# EAGLE library part ADIS16209 (library DAC)
High Accuracy, Dual-Axis Digital Inclinometer and Accelerometer Source: http://www.analog.com/static/imported-files/data_sheets/ADIS16209.pdf
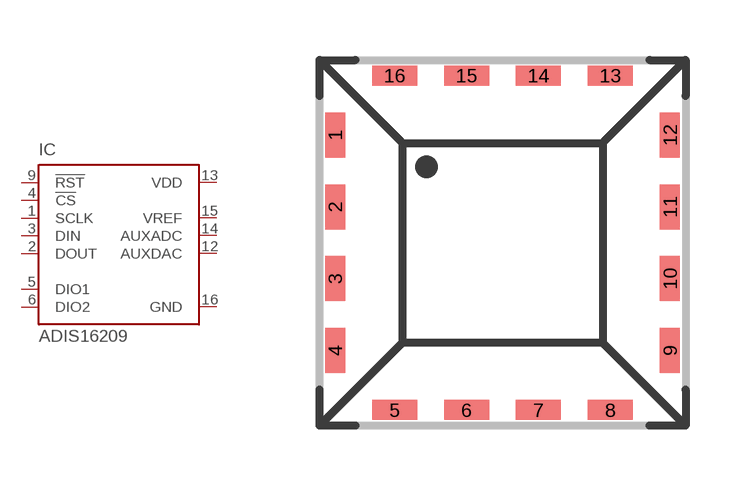
[diagram p59: symbol with the pads of LGA16; footprint LGA16]

Designator prefix IC

## ADIS16209 (MPN: ADIS16209CCCZ; OC_FARNELL: 1607244; OC_NEWARK: 71M1609)  [LGA16]
1  SCLK  in
2  DOUT  out
3  DIN  in
4  !CS  in
5  DIO1
6  DIO2
9  !RST  in
12  AUXDAC  in
13  VDD  pwr
14  AUXADC  in
15  VREF  in
16  GND  pwr

## Footprint LGA16 (pad centres in mm)
16-Terminal Land Grid Array [LGA] (CC-16-2) Source: http://www.analog.com/static/imported-files/data_sheets/ADIS16209.pdf
smd 0.5 x 1.127: 1 -4.186,2.696; 2 -4.187,0.898; 3 -4.187,-0.898; 4 -4.187,-2.696; 9 4.186,-2.696; 10 4.187,-0.898; 11 4.187,0.898; 12 4.187,2.696
smd 1.127 x 0.5: 5 -2.696,-4.186; 6 -0.898,-4.187; 7 0.898,-4.187; 8 2.696,-4.187; 13 2.696,4.186; 14 0.898,4.187; 15 -0.898,4.187; 16 -2.696,4.187